# Altium integrated library WE-FB_rev15a.intlib: 63 symbols
Pins are listed as number, name and electrical type; pins without a type are passive.

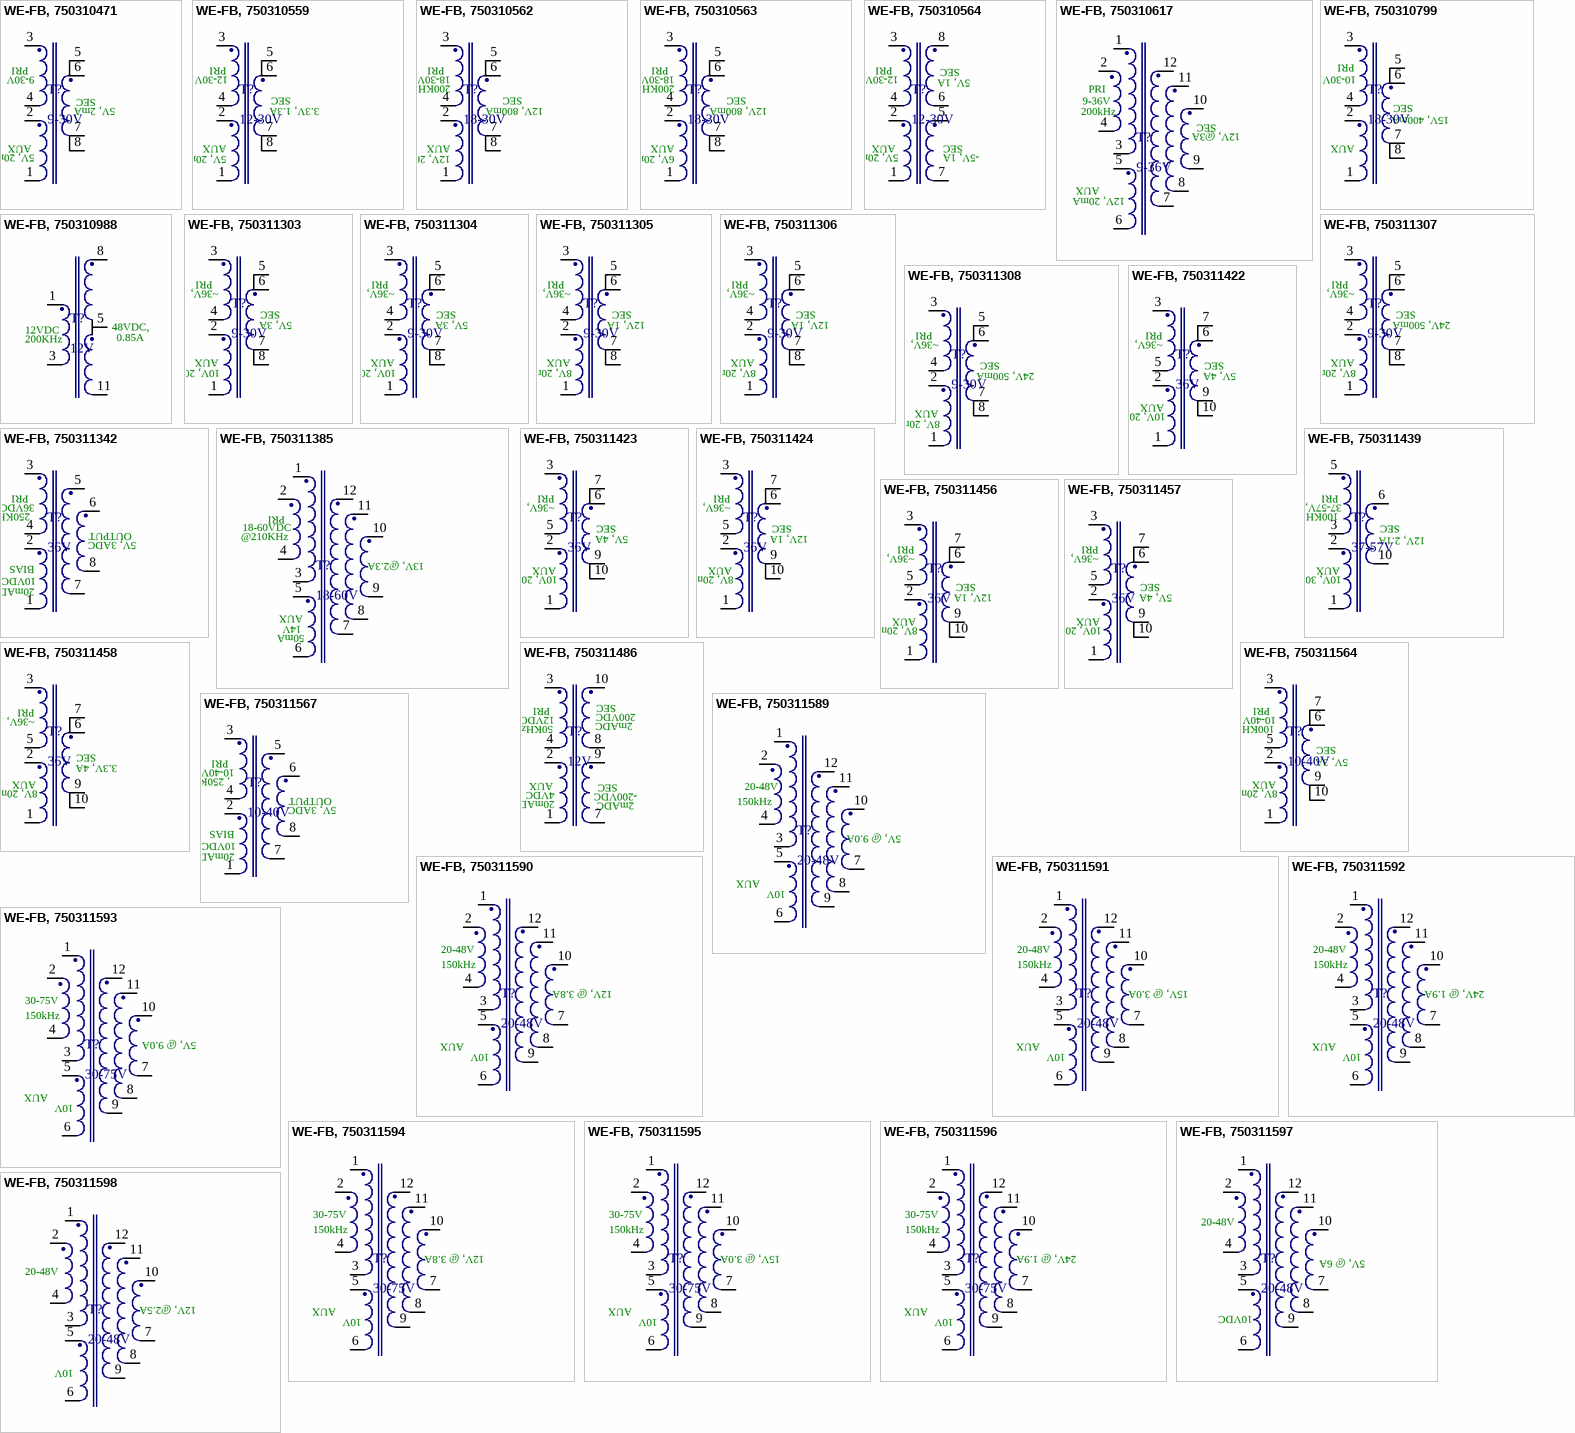
[diagram p0: symbols WE-FB, 750310471 to WE-FB, 750311598]

## WE-FB, 750310471
designator T?, comment 9-30V
Flyback Transformer suitable or LT3573/ LT3574/ LT3575/ LT3748 WE-FB, Ui=9-30V; PartNo: 750310471; Manufacturer: Würth Elektronik eiSos GmbH; Ui: 9-30V; ComponentLink1Description: Manufacturer; ComponentLink1URL: http://www.we-online.de; Created by: Otto Christin; Created Date: OCT 2013; ComponentLink2Description: Datasheet; ComponentLink2URL: http://katalog.we-online.de/pbs/datasheet/750310471.pdf
footprint EP10 (SMD, 8-Leads, Body 13.3x10.0mm (max), Pitch 2.49mm, IPC Medium Density)
pins: 1, 2, 3, 4, 5, 6, 7, 8
text: PRI; SEC; 5V, 2mA; AUX; 5V, 20mA

## WE-FB, 750310559
designator T?, comment 12-30V
Flyback Transformer suitable or LT3573/ LT3574/ LT3575/ LT3748 WE-FB, Ui=12-30V; PartNo: 750310559; Manufacturer: Würth Elektronik eiSos GmbH; Ui: 12-30V; ComponentLink1Description: Manufacturer; ComponentLink1URL: http://www.we-online.de; Created by: Otto Christin; Created Date: OCT 2013; ComponentLink2Description: Datasheet; ComponentLink2URL: http://katalog.we-online.de/pbs/datasheet/750310559.pdf
footprint EP10 (SMD, 8-Leads, Body 13.3x10.0mm (max), Pitch 2.49mm, IPC Medium Density)
pins: 1, 2, 3, 4, 5, 6, 7, 8
text: PRI; SEC; 3.3V, 1.3A; AUX; 5V, 20mA

## WE-FB, 750310562
designator T?, comment 18-30V
Flyback Transformer suitable or LT3573/ LT3574/ LT3575/ LT3748 WE-FB, Ui=18-30V; PartNo: 750310562; Manufacturer: Würth Elektronik eiSos GmbH; Ui: 18-30V; ComponentLink1Description: Manufacturer; ComponentLink1URL: http://www.we-online.de; Created by: Otto Christin; Created Date: OCT 2013; ComponentLink2Description: Datasheet; ComponentLink2URL: http://katalog.we-online.de/pbs/datasheet/750310562.pdf
footprint EP10 (SMD, 8-Leads, Body 13.3x10.0mm (max), Pitch 2.49mm, IPC Medium Density)
pins: 1, 2, 3, 4, 5, 6, 7, 8
text: PRI; 200KHz; SEC; 12V, 800mA; AUX; 12V, 20mA

## WE-FB, 750310563
designator T?, comment 18-30V
Flyback Transformer suitable or LT3573/ LT3574/ LT3575/ LT3748 WE-FB, Ui=18-30V; PartNo: 750310563; Manufacturer: Würth Elektronik eiSos GmbH; Ui: 18-30V; ComponentLink1Description: Manufacturer; ComponentLink1URL: http://www.we-online.de; Created by: Otto Christin; Created Date: OCT 2013; ComponentLink2Description: Datasheet; ComponentLink2URL: http://katalog.we-online.de/pbs/datasheet/750310563.pdf
footprint EP10 (SMD, 8-Leads, Body 13.3x10.0mm (max), Pitch 2.49mm, IPC Medium Density)
pins: 1, 2, 3, 4, 5, 6, 7, 8
text: PRI; 200KHz; SEC; 12V, 800mA; AUX; 6V, 20mA

## WE-FB, 750310564
designator T?, comment 12-30V
Flyback Transformer suitable or LT3573/ LT3574/ LT3575/ LT3748 WE-FB, Ui=12-30V; PartNo: 750310564; Manufacturer: Würth Elektronik eiSos GmbH; Ui: 12-30V; ComponentLink1Description: Manufacturer; ComponentLink1URL: http://www.we-online.de; Created by: Otto Christin; Created Date: OCT 2013; ComponentLink2Description: Datasheet; ComponentLink2URL: http://katalog.we-online.de/pbs/datasheet/750310564.pdf
footprint EP10 (SMD, 8-Leads, Body 13.3x10.0mm (max), Pitch 2.49mm, IPC Medium Density)
pins: 1, 2, 3, 4, 5, 6, 7, 8
text: PRI; SEC; 5V, 1A; AUX; 5V, 20mA; -5V, 1A

## WE-FB, 750310617
designator T?, comment 9-36V
Flyback Transformer suitable or LT3573/ LT3574/ LT3575/ LT3748 WE-FB, Ui=9-36V; PartNo: 750310617; Manufacturer: Würth Elektronik eiSos GmbH; Ui: 9-36V; ComponentLink1Description: Manufacturer; ComponentLink1URL: http://www.we-online.de; Created by: Otto Christin; Created Date: OCT 2013; ComponentLink2Description: Datasheet; ComponentLink2URL: http://katalog.we-online.de/pbs/datasheet/750310617.pdf
footprint EFD20 (SMD, 12-Leads, Body 23.1x24.0mm (max), Pitch 3.00mm, IPC Medium Density)
pins: 1, 2, 3, 4, 5, 6, 7, 8, 9, 10, 11, 12
text: PRI; 200kHz; SEC; 12V, @3A; AUX; 12V, 20mA

## WE-FB, 750310799
designator T?, comment 18-30V
Flyback Transformer suitable or LT3573/ LT3574/ LT3575/ LT3748 WE-FB, Ui=18-30V; PartNo: 750310799; Manufacturer: Würth Elektronik eiSos GmbH; Ui: 18-30V; ComponentLink1Description: Manufacturer; ComponentLink1URL: http://www.we-online.de; Created by: Otto Christin; Created Date: OCT 2013; ComponentLink2Description: Datasheet; ComponentLink2URL: http://katalog.we-online.de/pbs/datasheet/750310799.pdf
footprint EP7 (SMD, 8-Leads, Body 9.8x7.0mm (max), Pitch 2.49mm, IPC Medium Density)
pins: 1, 2, 3, 4, 5, 6, 7, 8
text: PRI; 10-30V; SEC; 15V, 400mA; AUX

## WE-FB, 750310988
designator T?, comment 12V
Flyback Transformer suitable or LT3573/ LT3574/ LT3575/ LT3748 WE-FB, Ui=12V; PartNo: 750310988; Manufacturer: Würth Elektronik eiSos GmbH; Ui: 12V; ComponentLink1Description: Manufacturer; ComponentLink1URL: http://www.we-online.de; Created by: Otto Christin; Created Date: OCT 2013; ComponentLink2Description: Datasheet; ComponentLink2URL: http://katalog.we-online.de/pbs/datasheet/750310988.pdf
footprint EFD25 (SMD, 12-Leads, Body 27.0x28.0mm (max), Pitch 3.76mm, IPC Medium Density)
pins: 1, 3, 5, 8, 11
text: 12VDC; 48VDC,; 0.85A; 200KHz

## WE-FB, 750311303
designator T?, comment 9-30V
Flyback Transformer suitable or LT3573/ LT3574/ LT3575/ LT3748 WE-FB, Ui=9-30V; PartNo: 750311303; Manufacturer: Würth Elektronik eiSos GmbH; Ui: 9-30V; ComponentLink1Description: Manufacturer; ComponentLink1URL: http://www.we-online.de; Created by: Otto Christin; Created Date: OCT 2013; ComponentLink2Description: Datasheet; ComponentLink2URL: http://katalog.we-online.de/pbs/datasheet/750311303.pdf
footprint EP10 (SMD, 8-Leads, Body 13.3x10.0mm (max), Pitch 2.49mm, IPC Medium Density)
pins: 1, 2, 3, 4, 5, 6, 7, 8
text: PRI; ~36V, 100KHz; SEC; 5V, 3A; AUX; 10V, 20mA

## WE-FB, 750311304
designator T?, comment 9-30V
Flyback Transformer suitable or LT3573/ LT3574/ LT3575/ LT3748 WE-FB, Ui=9-30V; PartNo: 750311304; Manufacturer: Würth Elektronik eiSos GmbH; Ui: 9-30V; ComponentLink1Description: Manufacturer; ComponentLink1URL: http://www.we-online.de; Created by: Otto Christin; Created Date: OCT 2013; ComponentLink2Description: Datasheet; ComponentLink2URL: http://katalog.we-online.de/pbs/datasheet/750311304.pdf
footprint EP10 (SMD, 8-Leads, Body 13.3x10.0mm (max), Pitch 2.49mm, IPC Medium Density)
pins: 1, 2, 3, 4, 5, 6, 7, 8
text: PRI; ~36V, 100KHz; SEC; 5V, 3A; AUX; 10V, 20mA

## WE-FB, 750311305
designator T?, comment 9-30V
Flyback Transformer suitable or LT3573/ LT3574/ LT3575/ LT3748 WE-FB, Ui=9-30V; PartNo: 750311305; Manufacturer: Würth Elektronik eiSos GmbH; Ui: 9-30V; ComponentLink1Description: Manufacturer; ComponentLink1URL: http://www.we-online.de; Created by: Otto Christin; Created Date: OCT 2013; ComponentLink2Description: Datasheet; ComponentLink2URL: http://katalog.we-online.de/pbs/datasheet/750311305.pdf
footprint EP10 (SMD, 8-Leads, Body 13.3x10.0mm (max), Pitch 2.49mm, IPC Medium Density)
pins: 1, 2, 3, 4, 5, 6, 7, 8
text: PRI; ~36V, 100KHz; SEC; 12V, 1A; AUX; 8V, 20mA

## WE-FB, 750311306
designator T?, comment 9-30V
Flyback Transformer suitable or LT3573/ LT3574/ LT3575/ LT3748 WE-FB, Ui=9-30V; PartNo: 750311306; Manufacturer: Würth Elektronik eiSos GmbH; Ui: 9-30V; ComponentLink1Description: Manufacturer; ComponentLink1URL: http://www.we-online.de; Created by: Otto Christin; Created Date: OCT 2013; ComponentLink2Description: Datasheet; ComponentLink2URL: http://katalog.we-online.de/pbs/datasheet/750311306.pdf
footprint EP10 (SMD, 8-Leads, Body 13.3x10.0mm (max), Pitch 2.49mm, IPC Medium Density)
pins: 1, 2, 3, 4, 5, 6, 7, 8
text: PRI; ~36V, 100KHz; SEC; 12V, 1A; AUX; 8V, 20mA

## WE-FB, 750311307
designator T?, comment 9-30V
Flyback Transformer suitable or LT3573/ LT3574/ LT3575/ LT3748 WE-FB, Ui=9-30V; PartNo: 750311307; Manufacturer: Würth Elektronik eiSos GmbH; Ui: 9-30V; ComponentLink1Description: Manufacturer; ComponentLink1URL: http://www.we-online.de; Created by: Otto Christin; Created Date: OCT 2013; ComponentLink2Description: Datasheet; ComponentLink2URL: http://katalog.we-online.de/pbs/datasheet/750311307.pdf
footprint EP10 (SMD, 8-Leads, Body 13.3x10.0mm (max), Pitch 2.49mm, IPC Medium Density)
pins: 1, 2, 3, 4, 5, 6, 7, 8
text: PRI; ~36V, 100KHz; SEC; 24V, 500mA; AUX; 8V, 20mA

## WE-FB, 750311308
designator T?, comment 9-30V
Flyback Transformer suitable or LT3573/ LT3574/ LT3575/ LT3748 WE-FB, Ui=9-30V; PartNo: 750311308; Manufacturer: Würth Elektronik eiSos GmbH; Ui: 9-30V; ComponentLink1Description: Manufacturer; ComponentLink1URL: http://www.we-online.de; Created by: Otto Christin; Created Date: OCT 2013; ComponentLink2Description: Datasheet; ComponentLink2URL: http://katalog.we-online.de/pbs/datasheet/750311308.pdf
footprint EP10 (SMD, 8-Leads, Body 13.3x10.0mm (max), Pitch 2.49mm, IPC Medium Density)
pins: 1, 2, 3, 4, 5, 6, 7, 8
text: PRI; ~36V, 100KHz; SEC; 24V, 500mA; AUX; 8V, 20mA

## WE-FB, 750311342
designator T?, comment 36V
Flyback Transformer suitable or LT3573/ LT3574/ LT3575/ LT3748 WE-FB, Ui=36V; PartNo: 750311342; Manufacturer: Würth Elektronik eiSos GmbH; Ui: 36V; ComponentLink1Description: Manufacturer; ComponentLink1URL: http://www.we-online.de; Created by: Otto Christin; Created Date: OCT 2013; ComponentLink2Description: Datasheet; ComponentLink2URL: http://katalog.we-online.de/pbs/datasheet/750311342.pdf
footprint EFD20 (750311342) (SMD, 8-Leads, Body 13.3x10.0mm (max), Pitch 2.49mm, IPC Medium Density)
pins: 1, 2, 3, 4, 5, 6, 7, 8
text: PRI; 36VDC,; 250KHz; OUTPUT; 5V, 3ADC; BIAS; 10VDC,; 20mADC

## WE-FB, 750311385
designator T?, comment 18-60V
Flyback Transformer suitable or LT3573/ LT3574/ LT3575/ LT3748 WE-FB, Ui=18-60V; PartNo: 750311385; Manufacturer: Würth Elektronik eiSos GmbH; Ui: 18-60V; ComponentLink1Description: Manufacturer; ComponentLink1URL: http://www.we-online.de; Created by: Otto Christin; Created Date: OCT 2013; ComponentLink2Description: Datasheet; ComponentLink2URL: http://katalog.we-online.de/pbs/datasheet/750311385.pdf
footprint EFD20 (SMD, 12-Leads, Body 23.1x24.0mm (max), Pitch 3.00mm, IPC Medium Density)
pins: 1, 2, 3, 4, 5, 6, 7, 8, 9, 10, 11, 12
text: PRI; 18-60VDC; @210KHz; 13V, @2.3A; AUX; 14V; 50mA

## WE-FB, 750311422
designator T?, comment 36V
Flyback Transformer suitable or LT3573/ LT3574/ LT3575/ LT3748 WE-FB, Ui=36V; PartNo: 750311422; Manufacturer: Würth Elektronik eiSos GmbH; Ui: 36V; ComponentLink1Description: Manufacturer; ComponentLink1URL: http://www.we-online.de; Created by: Otto Christin; Created Date: OCT 2013; ComponentLink2Description: Datasheet; ComponentLink2URL: http://katalog.we-online.de/pbs/datasheet/750311422.pdf
footprint EP13 (SMD, 10-Leads, Body 13.5x14.0mm (max), Pitch 2.48mm, IPC Medium Density)
pins: 1, 2, 3, 5, 6, 7, 9, 10
text: PRI; ~36V, 100KHz; SEC; 5V, 4A; AUX; 10V, 20mA

## WE-FB, 750311423
designator T?, comment 36V
Flyback Transformer suitable or LT3573/ LT3574/ LT3575/ LT3748 WE-FB, Ui=36V; PartNo: 750311423; Manufacturer: Würth Elektronik eiSos GmbH; Ui: 36V; ComponentLink1Description: Manufacturer; ComponentLink1URL: http://www.we-online.de; Created by: Otto Christin; Created Date: OCT 2013; ComponentLink2Description: Datasheet; ComponentLink2URL: http://katalog.we-online.de/pbs/datasheet/7750311423.pdf
footprint EP13 (SMD, 10-Leads, Body 13.5x14.0mm (max), Pitch 2.48mm, IPC Medium Density)
pins: 1, 2, 3, 5, 6, 7, 9, 10
text: PRI; ~36V, 100KHz; SEC; 5V, 4A; AUX; 10V, 20mA

## WE-FB, 750311424
designator T?, comment 36V
Flyback Transformer suitable or LT3573/ LT3574/ LT3575/ LT3748 WE-FB, Ui=36V; PartNo: 750311424; Manufacturer: Würth Elektronik eiSos GmbH; Ui: 36V; ComponentLink1Description: Manufacturer; ComponentLink1URL: http://www.we-online.de; Created by: Otto Christin; Created Date: OCT 2013; ComponentLink2Description: Datasheet; ComponentLink2URL: http://katalog.we-online.de/pbs/datasheet/750311424.pdf
footprint EP13 (SMD, 10-Leads, Body 13.5x14.0mm (max), Pitch 2.48mm, IPC Medium Density)
pins: 1, 2, 3, 5, 6, 7, 9, 10
text: PRI; ~36V, 100KHz; SEC; 12V, 1A; AUX; 8V, 20mA

## WE-FB, 750311439
designator T?, comment 37-57V
Flyback Transformer suitable or LT3573/ LT3574/ LT3575/ LT3748 WE-FB, Ui=37-57V; PartNo: 750311439; Manufacturer: Würth Elektronik eiSos GmbH; Ui: 37-57V; ComponentLink1Description: Manufacturer; ComponentLink1URL: http://www.we-online.de; Created by: Otto Christin; Created Date: OCT 2013; ComponentLink2Description: Datasheet; ComponentLink2URL: http://katalog.we-online.de/pbs/datasheet/750311439.pdf
footprint EP13 (SMD, 10-Leads, Body 13.5x14.0mm (max), Pitch 2.48mm, IPC Medium Density)
pins: 1, 2, 3, 5, 6, 10
text: PRI; 37-57V,; 100KHz; SEC; 12V, 2.1A; AUX; 10V, 30mA

## WE-FB, 750311456
designator T?, comment 36V
Flyback Transformer suitable or LT3573/ LT3574/ LT3575/ LT3748 WE-FB, Ui=36V; PartNo: 750311456; Manufacturer: Würth Elektronik eiSos GmbH; Ui: 36V; ComponentLink1Description: Manufacturer; ComponentLink1URL: http://www.we-online.de; Created by: Otto Christin; Created Date: OCT 2013; ComponentLink2Description: Datasheet; ComponentLink2URL: http://katalog.we-online.de/pbs/datasheet/750311456.pdf
footprint EP13 (SMD, 10-Leads, Body 13.5x14.0mm (max), Pitch 2.48mm, IPC Medium Density)
pins: 1, 2, 3, 5, 6, 7, 9, 10
text: PRI; ~36V, 100KHz; SEC; 12V, 1A; AUX; 8V, 20mA

## WE-FB, 750311457
designator T?, comment 36V
Flyback Transformer suitable or LT3573/ LT3574/ LT3575/ LT3748 WE-FB, Ui=36V; PartNo: 750311457; Manufacturer: Würth Elektronik eiSos GmbH; Ui: 36V; ComponentLink1Description: Manufacturer; ComponentLink1URL: http://www.we-online.de; Created by: Otto Christin; Created Date: OCT 2013; ComponentLink2Description: Datasheet; ComponentLink2URL: http://katalog.we-online.de/pbs/datasheet/750311457.pdf
footprint EP13 (SMD, 10-Leads, Body 13.5x14.0mm (max), Pitch 2.48mm, IPC Medium Density)
pins: 1, 2, 3, 5, 6, 7, 9, 10
text: PRI; ~36V, 100KHz; SEC; 5V, 4A; AUX; 10V, 20mA

## WE-FB, 750311458
designator T?, comment 36V
Flyback Transformer suitable or LT3573/ LT3574/ LT3575/ LT3748 WE-FB, Ui=36V; PartNo: 750311458; Manufacturer: Würth Elektronik eiSos GmbH; Ui: 36V; ComponentLink1Description: Manufacturer; ComponentLink1URL: http://www.we-online.de; Created by: Otto Christin; Created Date: OCT 2013; ComponentLink2Description: Datasheet; ComponentLink2URL: http://katalog.we-online.de/pbs/datasheet/750311458.pdf
footprint EP13 (SMD, 10-Leads, Body 13.5x14.0mm (max), Pitch 2.48mm, IPC Medium Density)
pins: 1, 2, 3, 5, 6, 7, 9, 10
text: PRI; ~36V, 100KHz; SEC; 3.3V, 4A; AUX; 8V, 20mA

## WE-FB, 750311486
designator T?, comment 12V
Flyback Transformer suitable or LT3573/ LT3574/ LT3575/ LT3748 WE-FB, Ui=12V; PartNo: 750311486; Manufacturer: Würth Elektronik eiSos GmbH; Ui: 12V; ComponentLink1Description: Manufacturer; ComponentLink1URL: http://www.we-online.de; Created by: Otto Christin; Created Date: OCT 2013; ComponentLink2Description: Datasheet; ComponentLink2URL: http://katalog.we-online.de/pbs/datasheet/750311486.pdf
footprint EP13 (SMD, 10-Leads, Body 13.5x14.0mm (max), Pitch 2.48mm, IPC Medium Density)
pins: 1, 2, 3, 4, 7, 8, 9, 10
text: PRI; SEC; 12VDC; 200VDC; 2mADC; 50KHz; AUX; 4VDC; -200VDC; 20mADC

## WE-FB, 750311564
designator T?, comment 10-40V
Flyback Transformer suitable or LT3573/ LT3574/ LT3575/ LT3748 WE-FB, Ui=10-40V; PartNo: 750311564; Manufacturer: Würth Elektronik eiSos GmbH; Ui: 10-40V; ComponentLink1Description: Manufacturer; ComponentLink1URL: http://www.we-online.de; Created by: Otto Christin; Created Date: OCT 2013; ComponentLink2Description: Datasheet; ComponentLink2URL: http://katalog.we-online.de/pbs/datasheet/750311564.pdf
footprint EP13 (SMD, 10-Leads, Body 13.5x14.0mm (max), Pitch 2.48mm, IPC Medium Density)
pins: 1, 2, 3, 5, 6, 7, 9, 10
text: PRI; 10-40V,; 100KHz; SEC; 5V, 3A; AUX; 8V, 20mA

## WE-FB, 750311567
designator T?, comment 10-40V
Flyback Transformer suitable or LT3573/ LT3574/ LT3575/ LT3748 WE-FB, Ui=10-40V; PartNo: 750311567; Manufacturer: Würth Elektronik eiSos GmbH; Ui: 10-40V; ComponentLink1Description: Manufacturer; ComponentLink1URL: http://www.we-online.de; Created by: Otto Christin; Created Date: OCT 2013; ComponentLink2Description: Datasheet; ComponentLink2URL: http://katalog.we-online.de/pbs/datasheet/750311567.pdf
footprint EP10 (SMD, 8-Leads, Body 13.3x10.0mm (max), Pitch 2.49mm, IPC Medium Density)
pins: 1, 2, 3, 4, 5, 6, 7, 8
text: PRI; 10-40VDC; , 250KHz; OUTPUT; 5V, 3ADC; BIAS; 10VDC,; 20mADC

## WE-FB, 750311589
designator T?, comment 20-48V
Flyback Transformer suitable or LT3573/ LT3574/ LT3575/ LT3748 WE-FB, Ui=20-48V; PartNo: 750311589; Manufacturer: Würth Elektronik eiSos GmbH; Ui: 20-48V; ComponentLink1Description: Manufacturer; ComponentLink1URL: http://www.we-online.de; Created by: Otto Christin; Created Date: OCT 2013; ComponentLink2Description: Datasheet; ComponentLink2URL: http://katalog.we-online.de/pbs/datasheet/750311589.pdf
footprint EFD25 (SMD, 12-Leads, Body 27.0x28.0mm (max), Pitch 3.76mm, IPC Medium Density)
pins: 1, 2, 3, 4, 5, 6, 7, 8, 9, 10, 11, 12
text: 150kHz; 5V, @ 9.0A; AUX; 10V

## WE-FB, 750311590
designator T?, comment 20-48V
Flyback Transformer suitable or LT3573/ LT3574/ LT3575/ LT3748 WE-FB, Ui=20-48V; PartNo: 750311590; Manufacturer: Würth Elektronik eiSos GmbH; Ui: 20-48V; ComponentLink1Description: Manufacturer; ComponentLink1URL: http://www.we-online.de; Created by: Otto Christin; Created Date: OCT 2013; ComponentLink2Description: Datasheet; ComponentLink2URL: http://katalog.we-online.de/pbs/datasheet/750311590.pdf
footprint EFD25 (SMD, 12-Leads, Body 27.0x28.0mm (max), Pitch 3.76mm, IPC Medium Density)
pins: 1, 2, 3, 4, 5, 6, 7, 8, 9, 10, 11, 12
text: 150kHz; 12V, @ 3.8A; AUX; 10V

## WE-FB, 750311591
designator T?, comment 20-48V
Flyback Transformer suitable or LT3573/ LT3574/ LT3575/ LT3748 WE-FB, Ui=20-48V; PartNo: 750311591; Manufacturer: Würth Elektronik eiSos GmbH; Ui: 20-48V; ComponentLink1Description: Manufacturer; ComponentLink1URL: http://www.we-online.de; Created by: Otto Christin; Created Date: OCT 2013; ComponentLink2Description: Datasheet; ComponentLink2URL: http://katalog.we-online.de/pbs/datasheet/750311591.pdf
footprint EFD25 (SMD, 12-Leads, Body 27.0x28.0mm (max), Pitch 3.76mm, IPC Medium Density)
pins: 1, 2, 3, 4, 5, 6, 7, 8, 9, 10, 11, 12
text: 150kHz; 15V, @ 3.0A; AUX; 10V

## WE-FB, 750311592
designator T?, comment 20-48V
Flyback Transformer suitable or LT3573/ LT3574/ LT3575/ LT3748 WE-FB, Ui=20-48V; PartNo: 750311592; Manufacturer: Würth Elektronik eiSos GmbH; Ui: 20-48V; ComponentLink1Description: Manufacturer; ComponentLink1URL: http://www.we-online.de; Created by: Otto Christin; Created Date: OCT 2013; ComponentLink2Description: Datasheet; ComponentLink2URL: http://katalog.we-online.de/pbs/datasheet/750311592.pdf
footprint EFD25 (SMD, 12-Leads, Body 27.0x28.0mm (max), Pitch 3.76mm, IPC Medium Density)
pins: 1, 2, 3, 4, 5, 6, 7, 8, 9, 10, 11, 12
text: 150kHz; 24V, @ 1.9A; AUX; 10V

## WE-FB, 750311593
designator T?, comment 30-75V
Flyback Transformer suitable or LT3573/ LT3574/ LT3575/ LT3748 WE-FB, Ui=30-75V; PartNo: 750311593; Manufacturer: Würth Elektronik eiSos GmbH; Ui: 30-75V; ComponentLink1Description: Manufacturer; ComponentLink1URL: http://www.we-online.de; Created by: Otto Christin; Created Date: OCT 2013; ComponentLink2Description: Datasheet; ComponentLink2URL: http://katalog.we-online.de/pbs/datasheet/750311593.pdf
footprint EFD25 (SMD, 12-Leads, Body 27.0x28.0mm (max), Pitch 3.76mm, IPC Medium Density)
pins: 1, 2, 3, 4, 5, 6, 7, 8, 9, 10, 11, 12
text: 150kHz; 5V, @ 9.0A; AUX; 10V

## WE-FB, 750311594
designator T?, comment 30-75V
Flyback Transformer suitable or LT3573/ LT3574/ LT3575/ LT3748 WE-FB, Ui=30-75V; PartNo: 750311594; Manufacturer: Würth Elektronik eiSos GmbH; Ui: 30-75V; ComponentLink1Description: Manufacturer; ComponentLink1URL: http://www.we-online.de; Created by: Otto Christin; Created Date: OCT 2013; ComponentLink2Description: Datasheet; ComponentLink2URL: http://katalog.we-online.de/pbs/datasheet/750311594.pdf
footprint EFD25 (SMD, 12-Leads, Body 27.0x28.0mm (max), Pitch 3.76mm, IPC Medium Density)
pins: 1, 2, 3, 4, 5, 6, 7, 8, 9, 10, 11, 12
text: 150kHz; 12V, @ 3.8A; AUX; 10V

## WE-FB, 750311595
designator T?, comment 30-75V
Flyback Transformer suitable or LT3573/ LT3574/ LT3575/ LT3748 WE-FB, Ui=30-75V; PartNo: 750311595; Manufacturer: Würth Elektronik eiSos GmbH; Ui: 30-75V; ComponentLink1Description: Manufacturer; ComponentLink1URL: http://www.we-online.de; Created by: Otto Christin; Created Date: OCT 2013; ComponentLink2Description: Datasheet; ComponentLink2URL: http://katalog.we-online.de/pbs/datasheet/750311595.pdf
footprint EFD25 (SMD, 12-Leads, Body 27.0x28.0mm (max), Pitch 3.76mm, IPC Medium Density)
pins: 1, 2, 3, 4, 5, 6, 7, 8, 9, 10, 11, 12
text: 150kHz; 15V, @ 3.0A; AUX; 10V

## WE-FB, 750311596
designator T?, comment 30-75V
Flyback Transformer suitable or LT3573/ LT3574/ LT3575/ LT3748 WE-FB, Ui=30-75V; PartNo: 750311596; Manufacturer: Würth Elektronik eiSos GmbH; Ui: 30-75V; ComponentLink1Description: Manufacturer; ComponentLink1URL: http://www.we-online.de; Created by: Otto Christin; Created Date: OCT 2013; ComponentLink2Description: Datasheet; ComponentLink2URL: http://katalog.we-online.de/pbs/datasheet/750311596.pdf
footprint EFD25 (SMD, 12-Leads, Body 27.0x28.0mm (max), Pitch 3.76mm, IPC Medium Density)
pins: 1, 2, 3, 4, 5, 6, 7, 8, 9, 10, 11, 12
text: 150kHz; 24V, @ 1.9A; AUX; 10V

## WE-FB, 750311597
designator T?, comment 20-48V
Flyback Transformer suitable or LT3573/ LT3574/ LT3575/ LT3748 WE-FB, Ui=20-48V; PartNo: 750311597; Manufacturer: Würth Elektronik eiSos GmbH; Ui: 20-48V; ComponentLink1Description: Manufacturer; ComponentLink1URL: http://www.we-online.de; Created by: Otto Christin; Created Date: OCT 2013; ComponentLink2Description: Datasheet; ComponentLink2URL: http://katalog.we-online.de/pbs/datasheet/750311597.pdf
footprint EFD20 (SMD, 12-Leads, Body 23.1x24.0mm (max), Pitch 3.00mm, IPC Medium Density)
pins: 1, 2, 3, 4, 5, 6, 7, 8, 9, 10, 11, 12
text: 5V, @ 6A; 10VDC

## WE-FB, 750311598
designator T?, comment 20-48V
Flyback Transformer suitable or LT3573/ LT3574/ LT3575/ LT3748 WE-FB, Ui=20-48V; PartNo: 750311598; Manufacturer: Würth Elektronik eiSos GmbH; Ui: 20-48V; ComponentLink1Description: Manufacturer; ComponentLink1URL: http://www.we-online.de; Created by: Otto Christin; Created Date: OCT 2013; ComponentLink2Description: Datasheet; ComponentLink2URL: http://katalog.we-online.de/pbs/datasheet/750311598.pdf
footprint EFD20 (SMD, 12-Leads, Body 23.1x24.0mm (max), Pitch 3.00mm, IPC Medium Density)
pins: 1, 2, 3, 4, 5, 6, 7, 8, 9, 10, 11, 12
text: 12V, @2.5A; 10V

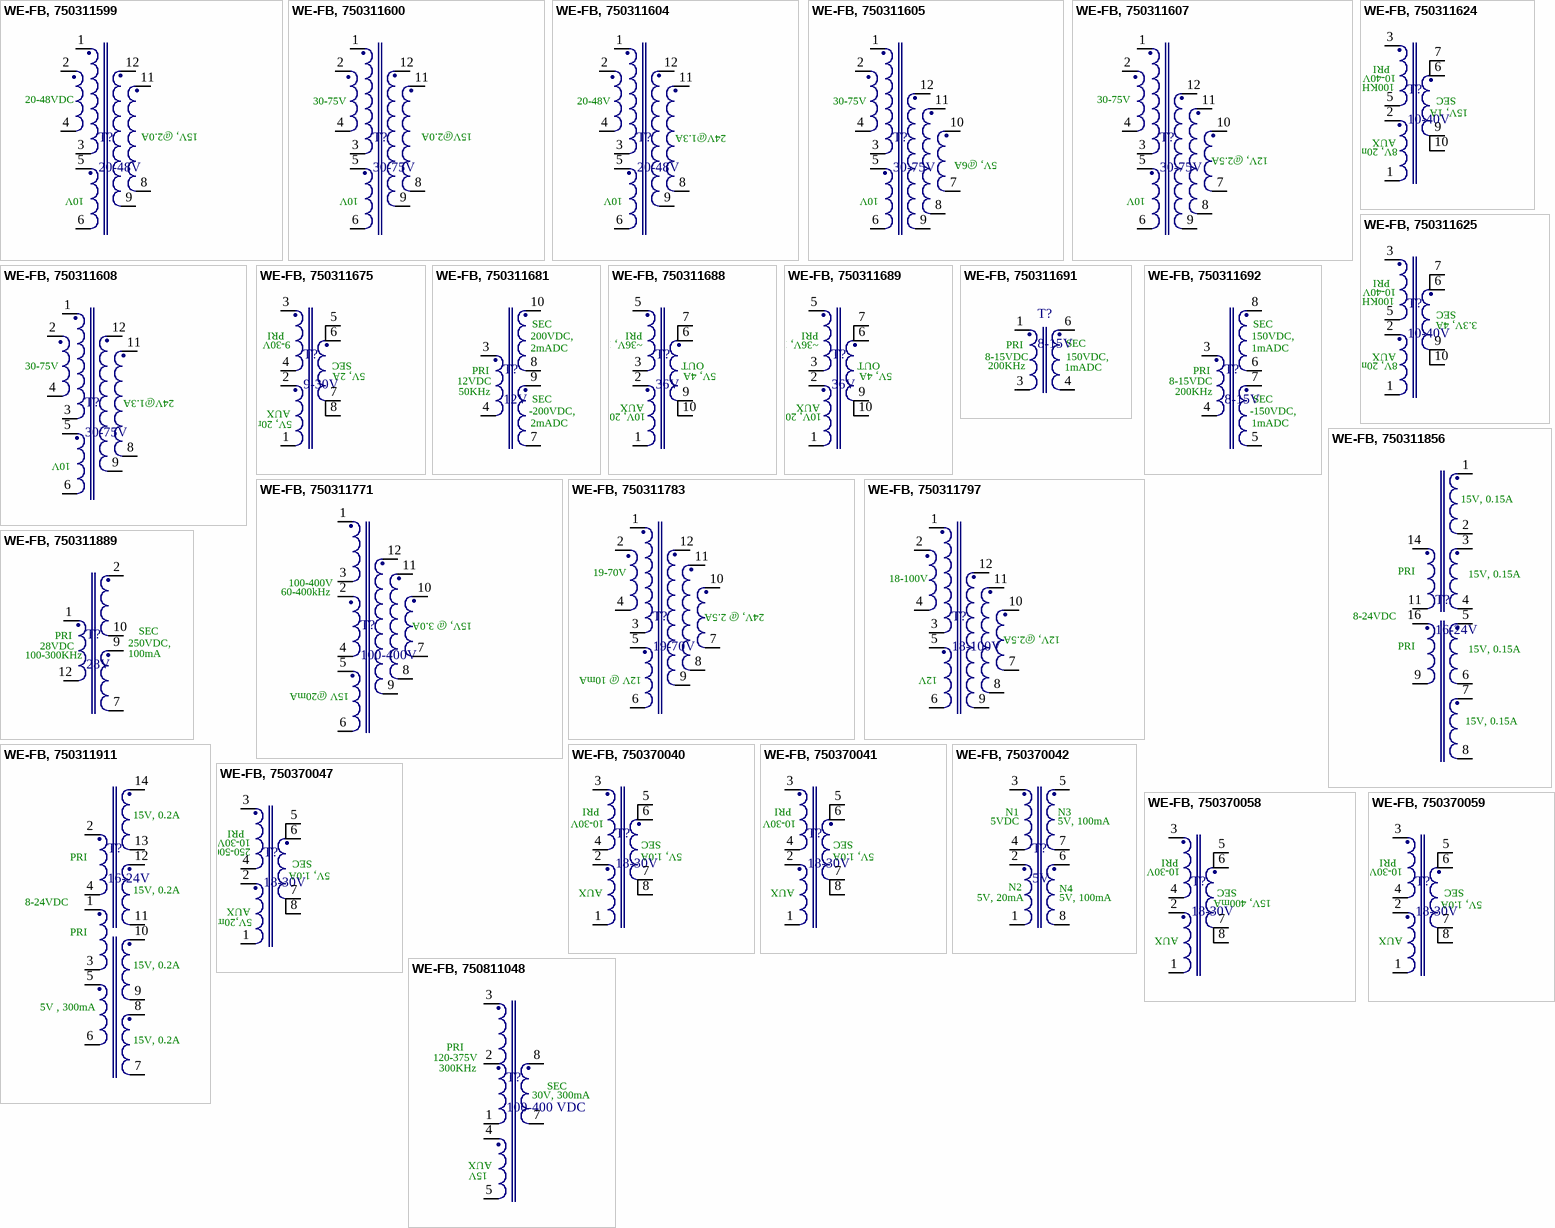
[diagram p1: symbols WE-FB, 750311599 to WE-FB, 750811048]

## WE-FB, 750311599
designator T?, comment 20-48V
Flyback Transformer suitable or LT3573/ LT3574/ LT3575/ LT3748 WE-FB, Ui=20-48V; PartNo: 750311599; Manufacturer: Würth Elektronik eiSos GmbH; Ui: 20-48V; ComponentLink1Description: Manufacturer; ComponentLink1URL: http://www.we-online.de; Created by: Otto Christin; Created Date: OCT 2013; ComponentLink2Description: Datasheet; ComponentLink2URL: http://katalog.we-online.de/pbs/datasheet/750311599.pdf
footprint EFD20 (SMD, 12-Leads, Body 23.1x24.0mm (max), Pitch 3.00mm, IPC Medium Density)
pins: 1, 2, 3, 4, 5, 6, 8, 9, 11, 12
text: 20-48VDC; 15V, @2.0A; 10V

## WE-FB, 750311600
designator T?, comment 30-75V
Flyback Transformer suitable or LT3573/ LT3574/ LT3575/ LT3748 WE-FB, Ui=30-75V; PartNo: 750311600; Manufacturer: Würth Elektronik eiSos GmbH; Ui: 30-75V; ComponentLink1Description: Manufacturer; ComponentLink1URL: http://www.we-online.de; Created by: Otto Christin; Created Date: OCT 2013; ComponentLink2Description: Datasheet; ComponentLink2URL: http://katalog.we-online.de/pbs/datasheet/750311600.pdf
footprint EFD20 (SMD, 12-Leads, Body 23.1x24.0mm (max), Pitch 3.00mm, IPC Medium Density)
pins: 1, 2, 3, 4, 5, 6, 8, 9, 11, 12
text: 15V@2.0A; 10V

## WE-FB, 750311604
designator T?, comment 20-48V
Flyback Transformer suitable or LT3573/ LT3574/ LT3575/ LT3748 WE-FB, Ui=20-48V; PartNo: 750311604; Manufacturer: Würth Elektronik eiSos GmbH; Ui: 20-48V; ComponentLink1Description: Manufacturer; ComponentLink1URL: http://www.we-online.de; Created by: Otto Christin; Created Date: OCT 2013; ComponentLink2Description: Datasheet; ComponentLink2URL: http://katalog.we-online.de/pbs/datasheet/750311604.pdf
footprint EFD20 (SMD, 12-Leads, Body 23.1x24.0mm (max), Pitch 3.00mm, IPC Medium Density)
pins: 1, 2, 3, 4, 5, 6, 8, 9, 11, 12
text: 24V@1.3A; 10V

## WE-FB, 750311605
designator T?, comment 30-75V
Flyback Transformer suitable or LT3573/ LT3574/ LT3575/ LT3748 WE-FB, Ui=30-75V; PartNo: 750311605; Manufacturer: Würth Elektronik eiSos GmbH; Ui: 30-75V; ComponentLink1Description: Manufacturer; ComponentLink1URL: http://www.we-online.de; Created by: Otto Christin; Created Date: OCT 2013; ComponentLink2Description: Datasheet; ComponentLink2URL: http://katalog.we-online.de/pbs/datasheet/750311605.pdf
footprint EFD20 (SMD, 12-Leads, Body 23.1x24.0mm (max), Pitch 3.00mm, IPC Medium Density)
pins: 1, 2, 3, 4, 5, 6, 7, 8, 9, 10, 11, 12
text: 5V, @6A; 10V

## WE-FB, 750311607
designator T?, comment 30-75V
Flyback Transformer suitable or LT3573/ LT3574/ LT3575/ LT3748 WE-FB, Ui=30-75V; PartNo: 750311607; Manufacturer: Würth Elektronik eiSos GmbH; Ui: 30-75V; ComponentLink1Description: Manufacturer; ComponentLink1URL: http://www.we-online.de; Created by: Otto Christin; Created Date: OCT 2013; ComponentLink2Description: Datasheet; ComponentLink2URL: http://katalog.we-online.de/pbs/datasheet/750311607.pdf
footprint EFD20 (SMD, 12-Leads, Body 23.1x24.0mm (max), Pitch 3.00mm, IPC Medium Density)
pins: 1, 2, 3, 4, 5, 6, 7, 8, 9, 10, 11, 12
text: 12V, @2.5A; 10V

## WE-FB, 750311608
designator T?, comment 30-75V
Flyback Transformer suitable or LT3573/ LT3574/ LT3575/ LT3748 WE-FB, Ui=30-75V; PartNo: 750311608; Manufacturer: Würth Elektronik eiSos GmbH; Ui: 30-75V; ComponentLink1Description: Manufacturer; ComponentLink1URL: http://www.we-online.de; Created by: Otto Christin; Created Date: OCT 2013; ComponentLink2Description: Datasheet; ComponentLink2URL: http://katalog.we-online.de/pbs/datasheet/750311608.pdf
footprint EFD20 (SMD, 12-Leads, Body 23.1x24.0mm (max), Pitch 3.00mm, IPC Medium Density)
pins: 1, 2, 3, 4, 5, 6, 8, 9, 11, 12
text: 24V@1.3A; 10V

## WE-FB, 750311624
designator T?, comment 10-40V
Flyback Transformer suitable or LT3573/ LT3574/ LT3575/ LT3748 WE-FB, Ui=10-40V; PartNo: 750311624; Manufacturer: Würth Elektronik eiSos GmbH; Ui: 10-40V; ComponentLink1Description: Manufacturer; ComponentLink1URL: http://www.we-online.de; Created by: Otto Christin; Created Date: OCT 2013; ComponentLink2Description: Datasheet; ComponentLink2URL: http://katalog.we-online.de/pbs/datasheet/750311624.pdf
footprint EP13 (SMD, 10-Leads, Body 13.5x14.0mm (max), Pitch 2.48mm, IPC Medium Density)
pins: 1, 2, 3, 5, 6, 7, 9, 10
text: PRI; 10-40V,; 100KHz; SEC; 15V, 1A; AUX; 8V, 20mA

## WE-FB, 750311625
designator T?, comment 10-40V
Flyback Transformer suitable or LT3573/ LT3574/ LT3575/ LT3748 WE-FB, Ui=10-40V; PartNo: 750311625; Manufacturer: Würth Elektronik eiSos GmbH; Ui: 10-40V; ComponentLink1Description: Manufacturer; ComponentLink1URL: http://www.we-online.de; Created by: Otto Christin; Created Date: OCT 2013; ComponentLink2Description: Datasheet; ComponentLink2URL: http://katalog.we-online.de/pbs/datasheet/750311625.pdf
footprint EP13 (SMD, 10-Leads, Body 13.5x14.0mm (max), Pitch 2.48mm, IPC Medium Density)
pins: 1, 2, 3, 5, 6, 7, 9, 10
text: PRI; 10-40V,; 100KHz; SEC; 3.3V, 4A; AUX; 8V, 20mA

## WE-FB, 750311675
designator T?, comment 9-30V
Flyback Transformer suitable or LT3573/ LT3574/ LT3575/ LT3748 WE-FB, Ui=9-30V; PartNo: 750311675; Manufacturer: Würth Elektronik eiSos GmbH; Ui: 9-30V; ComponentLink1Description: Manufacturer; ComponentLink1URL: http://www.we-online.de; Created by: Otto Christin; Created Date: OCT 2013; ComponentLink2Description: Datasheet; ComponentLink2URL: http://katalog.we-online.de/pbs/datasheet/750311675.pdf
footprint EP10 (SMD, 8-Leads, Body 13.3x10.0mm (max), Pitch 2.49mm, IPC Medium Density)
pins: 1, 2, 3, 4, 5, 6, 7, 8
text: PRI; SEC; 5V, 2A; AUX; 5V, 20mA

## WE-FB, 750311681
designator T?, comment 12V
Flyback Transformer suitable or LT3573/ LT3574/ LT3575/ LT3748 WE-FB, Ui=12V; PartNo: 750311681; Manufacturer: Würth Elektronik eiSos GmbH; Ui: 12V; ComponentLink1Description: Manufacturer; ComponentLink1URL: http://www.we-online.de; Created by: Otto Christin; Created Date: OCT 2013; ComponentLink2Description: Datasheet; ComponentLink2URL: http://katalog.we-online.de/pbs/datasheet/750311681.pdf
footprint EP13 (SMD, 10-Leads, Body 13.5x14.0mm (max), Pitch 2.48mm, IPC Medium Density)
pins: 3, 4, 7, 8, 9, 10
text: SEC; 200VDC,; 2mADC; PRI; 12VDC; 50KHz; -200VDC,

## WE-FB, 750311688
designator T?, comment 36V
Flyback Transformer suitable or LT3573/ LT3574/ LT3575/ LT3748 WE-FB, Ui=36V; PartNo: 750311688; Manufacturer: Würth Elektronik eiSos GmbH; Ui: 36V; ComponentLink1Description: Manufacturer; ComponentLink1URL: http://www.we-online.de; Created by: Otto Christin; Created Date: OCT 2013; ComponentLink2Description: Datasheet; ComponentLink2URL: http://katalog.we-online.de/pbs/datasheet/750311688.pdf
footprint EP13 (SMD, 10-Leads, Body 13.5x14.0mm (max), Pitch 2.48mm, IPC Medium Density)
pins: 1, 2, 3, 5, 6, 7, 9, 10
text: PRI; ~36V, 100KHz; OUT; 5V, 4A; AUX; 10V, 20mA

## WE-FB, 750311689
designator T?, comment 36V
Flyback Transformer suitable or LT3573/ LT3574/ LT3575/ LT3748 WE-FB, Ui=36V; PartNo: 750311689; Manufacturer: Würth Elektronik eiSos GmbH; Ui: 36V; ComponentLink1Description: Manufacturer; ComponentLink1URL: http://www.we-online.de; Created by: Otto Christin; Created Date: OCT 2013; ComponentLink2Description: Datasheet; ComponentLink2URL: http://katalog.we-online.de/pbs/datasheet/750311689.pdf
footprint EP13 (SMD, 10-Leads, Body 13.5x14.0mm (max), Pitch 2.48mm, IPC Medium Density)
pins: 1, 2, 3, 5, 6, 7, 9, 10
text: PRI; ~36V, 100KHz; OUT; 5V, 4A; AUX; 10V, 20mA

## WE-FB, 750311691
designator T?, comment 8-15V
Flyback Transformer suitable or LT3573/ LT3574/ LT3575/ LT3748 WE-FB, Ui=8-15V; PartNo: 750311691; Manufacturer: Würth Elektronik eiSos GmbH; Ui: 8-15V; ComponentLink1Description: Manufacturer; ComponentLink1URL: http://www.we-online.de; Created by: Otto Christin; Created Date: OCT 2013; ComponentLink2Description: Datasheet; ComponentLink2URL: http://katalog.we-online.de/pbs/datasheet/750311691.pdf
footprint EP5 (SMD, 6-Leads, Body 6.6x6.0mm (max), Pitch 1.85mm, IPC Medium Density)
pins: 1, 3, 4, 6
text: PRI; SEC; 8-15VDC; 150VDC,; 200KHz; 1mADC

## WE-FB, 750311692
designator T?, comment 8-15V
Flyback Transformer suitable or LT3573/ LT3574/ LT3575/ LT3748 WE-FB, Ui=8-15V; PartNo: 750311692; Manufacturer: Würth Elektronik eiSos GmbH; Ui: 8-15V; ComponentLink1Description: Manufacturer; ComponentLink1URL: http://www.we-online.de; Created by: Otto Christin; Created Date: OCT 2013; ComponentLink2Description: Datasheet; ComponentLink2URL: http://katalog.we-online.de/pbs/datasheet/750311692.pdf
footprint EP7 (SMD, 8-Leads, Body 9.8x7.0mm (max), Pitch 2.49mm, IPC Medium Density)
pins: 3, 4, 5, 6, 7, 8
text: SEC; 150VDC,; 1mADC; PRI; 8-15VDC; 200KHz; -150VDC,

## WE-FB, 750311771
designator T?, comment 100-400V
Flyback Transformer suitable or LT3573/ LT3574/ LT3575/ LT3748 WE-FB, Ui=100-400V; PartNo: 750311771; Manufacturer: Würth Elektronik eiSos GmbH; Ui: 100-400V; ComponentLink1Description: Manufacturer; ComponentLink1URL: http://www.we-online.de; Created by: Otto Christin; Created Date: OCT 2013; ComponentLink2Description: Datasheet; ComponentLink2URL: http://katalog.we-online.de/pbs/datasheet/750311771.pdf
footprint EFD25 (SMD, 12-Leads, Body 27.0x28.0mm (max), Pitch 3.76mm, IPC Medium Density)
pins: 1, 2, 3, 4, 5, 6, 7, 8, 9, 10, 11, 12
text: 60-400kHz; 15V, @ 3.0A; 15V @20mA

## WE-FB, 750311783
designator T?, comment 19-70V
Flyback Transformer suitable or LT3573/ LT3574/ LT3575/ LT3748 WE-FB, Ui=19-70V; PartNo: 750311783; Manufacturer: Würth Elektronik eiSos GmbH; Ui: 19-70V; ComponentLink1Description: Manufacturer; ComponentLink1URL: http://www.we-online.de; Created by: Otto Christin; Created Date: OCT 2013; ComponentLink2Description: Datasheet; ComponentLink2URL: http://katalog.we-online.de/pbs/datasheet/750311783.pdf
footprint EFD25 (SMD, 12-Leads, Body 27.0x28.0mm (max), Pitch 3.76mm, IPC Medium Density)
pins: 1, 2, 3, 4, 5, 6, 7, 8, 9, 10, 11, 12
text: 24V, @ 2.5A; 12V @ 10mA

## WE-FB, 750311797
designator T?, comment 18-100V
Flyback Transformer suitable or LT3573/ LT3574/ LT3575/ LT3748 WE-FB, Ui=18-100V; PartNo: 750311797; Manufacturer: Würth Elektronik eiSos GmbH; Ui: 18-100V; ComponentLink1Description: Manufacturer; ComponentLink1URL: http://www.we-online.de; Created by: Otto Christin; Created Date: OCT 2013; ComponentLink2Description: Datasheet; ComponentLink2URL: http://katalog.we-online.de/pbs/datasheet/750311797.pdf
footprint EFD20 (SMD, 12-Leads, Body 23.1x24.0mm (max), Pitch 3.00mm, IPC Medium Density)
pins: 1, 2, 3, 4, 5, 6, 7, 8, 9, 10, 11, 12
text: 12V, @2.5A; 12V

## WE-FB, 750311856
designator T?, comment 16-24V
Flyback Transformer suitable or LT3573/ LT3574/ LT3575/ LT3748 WE-FB, Ui=16-24V; PartNo: 750311856; Manufacturer: Würth Elektronik eiSos GmbH; Ui: 16-24V; ComponentLink1Description: Manufacturer; ComponentLink1URL: http://www.we-online.de; Created by: Otto Christin; Created Date: OCT 2013; ComponentLink2Description: Datasheet; ComponentLink2URL: http://katalog.we-online.de/pbs/datasheet/750311856.pdf
footprint EP13 (750311856) (SMD, 12-Leads, Body 14.0x14.0mm (max), Pitch 1.70mm, IPC Medium Density)
pins: 1, 2, 3, 4, 5, 6, 7, 8, 9, 11, 14, 16
text: 15V, 0.15A; PRI; 8-24VDC

## WE-FB, 750311889
designator T?, comment 28V
Flyback Transformer suitable or LT3573/ LT3574/ LT3575/ LT3748 WE-FB, Ui=28V; PartNo: 750311889; Manufacturer: Würth Elektronik eiSos GmbH; Ui: 28V; ComponentLink1Description: Manufacturer; ComponentLink1URL: http://www.we-online.de; Created by: Otto Christin; Created Date: OCT 2013; ComponentLink2Description: Datasheet; ComponentLink2URL: http://katalog.we-online.de/pbs/datasheet/750311889.pdf
footprint EFD25 (SMD, 12-Leads, Body 27.0x28.0mm (max), Pitch 3.76mm, IPC Medium Density)
pins: 1, 2, 7, 9, 10, 12
text: SEC; PRI; 28VDC; 250VDC,; 100mA; 100-300KHz

## WE-FB, 750311911
designator T?, comment 16-24V
Flyback Transformer suitable or LT3573/ LT3574/ LT3575/ LT3748 WE-FB, Ui=16-24V; PartNo: 750311911; Manufacturer: Würth Elektronik eiSos GmbH; Ui: 16-24V; ComponentLink1Description: Manufacturer; ComponentLink1URL: http://www.we-online.de; Created by: Otto Christin; Created Date: OCT 2013; ComponentLink2Description: Datasheet; ComponentLink2URL: http://katalog.we-online.de/pbs/datasheet/750311911.pdf
footprint EE20/10/6 (TH, 14-Leads, Body 25.0x22.20mm (max), Pitch 2.49mm)
pins: 1, 2, 3, 4, 5, 6, 7, 8, 9, 10, 11, 12, 13, 14
text: 15V, 0.2A; PRI; 8-24VDC; 5V , 300mA

## WE-FB, 750370040
designator T?, comment 18-30V
Flyback Transformer suitable or LT3573/ LT3574/ LT3575/ LT3748 WE-FB, Ui=18-30V; PartNo: 750370040; Manufacturer: Würth Elektronik eiSos GmbH; Ui: 18-30V; ComponentLink1Description: Manufacturer; ComponentLink1URL: http://www.we-online.de; Created by: Otto Christin; Created Date: OCT 2013; ComponentLink2Description: Datasheet; ComponentLink2URL: http://katalog.we-online.de/pbs/datasheet/750370040.pdf
footprint EP7 (SMD, 8-Leads, Body 9.8x7.0mm (max), Pitch 2.49mm, IPC Medium Density)
pins: 1, 2, 3, 4, 5, 6, 7, 8
text: PRI; 10-30V; SEC; 5V, 1.0A; AUX

## WE-FB, 750370041
designator T?, comment 18-30V
Flyback Transformer suitable or LT3573/ LT3574/ LT3575/ LT3748 WE-FB, Ui=18-30V; PartNo: 750370041; Manufacturer: Würth Elektronik eiSos GmbH; Ui: 18-30V; ComponentLink1Description: Manufacturer; ComponentLink1URL: http://www.we-online.de; Created by: Otto Christin; Created Date: OCT 2013; ComponentLink2Description: Datasheet; ComponentLink2URL: http://katalog.we-online.de/pbs/datasheet/750370041.pdf
footprint EP7 (SMD, 8-Leads, Body 9.8x7.0mm (max), Pitch 2.49mm, IPC Medium Density)
pins: 1, 2, 3, 4, 5, 6, 7, 8
text: PRI; 10-30V; SEC; 5V, 1.0A; AUX

## WE-FB, 750370042
designator T?, comment 5V
Flyback Transformer suitable or LT3573/ LT3574/ LT3575/ LT3748 WE-FB, Ui=5V; PartNo: 750370042; Manufacturer: Würth Elektronik eiSos GmbH; Ui: 5V; ComponentLink1Description: Manufacturer; ComponentLink1URL: http://www.we-online.de; Created by: Otto Christin; Created Date: OCT 2013; ComponentLink2Description: Datasheet; ComponentLink2URL: http://katalog.we-online.de/pbs/datasheet/750370042.pdf
footprint ER9.5 (SMD, 8-Leads, Body 10.4x8.0mm (max), Pitch 2.00mm, IPC Medium Density)
pins: 1, 2, 3, 4, 5, 6, 7, 8
text: N1; N3; 5VDC; 5V, 100mA; N2; N4; 5V, 20mA

## WE-FB, 750370047
designator T?, comment 18-30V
Flyback Transformer suitable or LT3573/ LT3574/ LT3575/ LT3748 WE-FB, Ui=18-30V; PartNo: 750370047; Manufacturer: Würth Elektronik eiSos GmbH; Ui: 18-30V; ComponentLink1Description: Manufacturer; ComponentLink1URL: http://www.we-online.de; Created by: Otto Christin; Created Date: OCT 2013; ComponentLink2Description: Datasheet; ComponentLink2URL: http://katalog.we-online.de/pbs/datasheet/750370047.pdf
footprint EP7 (BIG) (SMD, 8-Leads, Body 10.8x10.0mm (max), Pitch 2.50mm, IPC Medium Density)
pins: 1, 2, 3, 4, 5, 6, 7, 8
text: PRI; 10-30V; 250-500KHz; SEC; 5V, 1.0A; AUX; 5V,20mA

## WE-FB, 750370058
designator T?, comment 18-30V
Flyback Transformer suitable or LT3573/ LT3574/ LT3575/ LT3748 WE-FB, Ui=18-30V; PartNo: 750370058; Manufacturer: Würth Elektronik eiSos GmbH; Ui: 18-30V; ComponentLink1Description: Manufacturer; ComponentLink1URL: http://www.we-online.de; Created by: Otto Christin; Created Date: OCT 2013; ComponentLink2Description: Datasheet; ComponentLink2URL: http://katalog.we-online.de/pbs/datasheet/750370058.pdf
footprint EP7 (BIG) (SMD, 8-Leads, Body 10.8x10.0mm (max), Pitch 2.50mm, IPC Medium Density)
pins: 1, 2, 3, 4, 5, 6, 7, 8
text: PRI; 10-30V; SEC; 15V, 400mA; AUX

## WE-FB, 750370059
designator T?, comment 18-30V
Flyback Transformer suitable or LT3573/ LT3574/ LT3575/ LT3748 WE-FB, Ui=18-30V; PartNo: 750370059; Manufacturer: Würth Elektronik eiSos GmbH; Ui: 18-30V; ComponentLink1Description: Manufacturer; ComponentLink1URL: http://www.we-online.de; Created by: Otto Christin; Created Date: OCT 2013; ComponentLink2Description: Datasheet; ComponentLink2URL: http://katalog.we-online.de/pbs/datasheet/750370059.pdf
footprint EP7 (BIG) (SMD, 8-Leads, Body 10.8x10.0mm (max), Pitch 2.50mm, IPC Medium Density)
pins: 1, 2, 3, 4, 5, 6, 7, 8
text: PRI; 10-30V; SEC; 5V, 1.0A; AUX

## WE-FB, 750811048
designator T?, comment 100-400 VDC
Flyback Transformer suitable or LT3573/ LT3574/ LT3575/ LT3748 WE-FB, Ui=100-400 VDC; PartNo: 750811048; Manufacturer: Würth Elektronik eiSos GmbH; Ui: 100-400 VDC; ComponentLink1Description: Manufacturer; ComponentLink1URL: http://www.we-online.de; Created by: Otto Christin; Created Date: OCT 2013; ComponentLink2Description: Datasheet; ComponentLink2URL: http://katalog.we-online.de/pbs/datasheet/750811048.pdf
footprint EE16/8/5 (TH, 9-Leads, Body 24.38x20.32mm (max), Pitch 3.50mm)
pins: 1, 2, 3, 4, 5, 7, 8
text: PRI; 120-375V; 300KHz; SEC; 30V, 300mA; AUX; 15V